# EAGLE library part MA03-2 (library esbd-connectors)
PIN HEADER
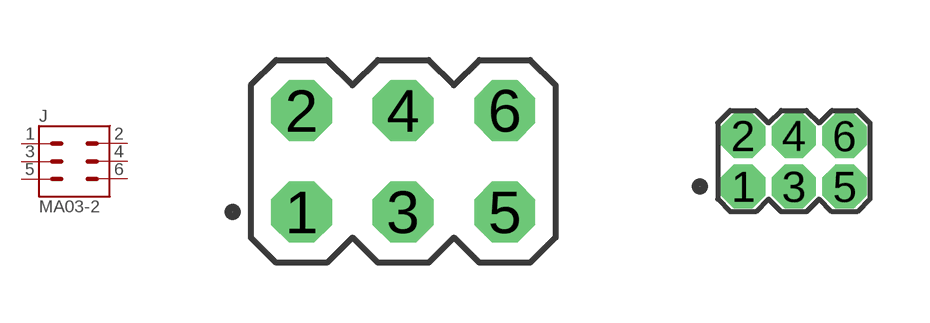
[diagram p36: symbol with the pads of MA03-2_TH_2.54MM; footprints MA03-2_TH_2.54MM, MA03-2_TH_1.27MM]

Designator prefix J

## MA03-2_TH_2.54MM  [MA03-2_TH_2.54MM]
1  1  pas
2  2  pas
3  3  pas
4  4  pas
5  5  pas
6  6  pas

## MA03-2_TH_1.27MM  [MA03-2_TH_1.27MM]
Pads as for MA03-2_TH_2.54MM

## MA03-2_SMD_1.27MM  [MA03-2_SMD_1.27MM]
Pads as for MA03-2_TH_2.54MM

## MA03-2_TH_SHR_2.54MM  [MA03-2_TH_SHR_2.54MM]
Pads as for MA03-2_TH_2.54MM

## Footprint MA03-2_TH_2.54MM (pad centres in mm)
PIN HEADER
drill 1.016 octagon: 1 -2.54,-1.27; 2 -2.54,1.27; 3 0,-1.27; 4 0,1.27; 5 2.54,-1.27; 6 2.54,1.27

## Footprint MA03-2_TH_1.27MM (pad centres in mm)
PIN HEADER
drill 0.6 octagon: 1 -1.27,-0.635; 2 -1.27,0.635; 3 0,-0.635; 4 0,0.635; 5 1.27,-0.635; 6 1.27,0.635

## Footprint MA03-2_SMD_1.27MM (pad centres in mm)
smd 0.76 x 2.4: 1 -1.27,-1.95; 2 -1.27,1.95; 3 0,-1.95; 4 0,1.95; 5 1.27,-1.95; 6 1.27,1.95

## Footprint MA03-2_TH_SHR_2.54MM (pad centres in mm)
PIN HEADER
drill 1.016 octagon: 1 -2.54,-1.27; 2 -2.54,1.27; 3 0,-1.27; 4 0,1.27; 5 2.54,-1.27; 6 2.54,1.27